# EAGLE library part M24M02-DR (library BrownSpaceEngineering)
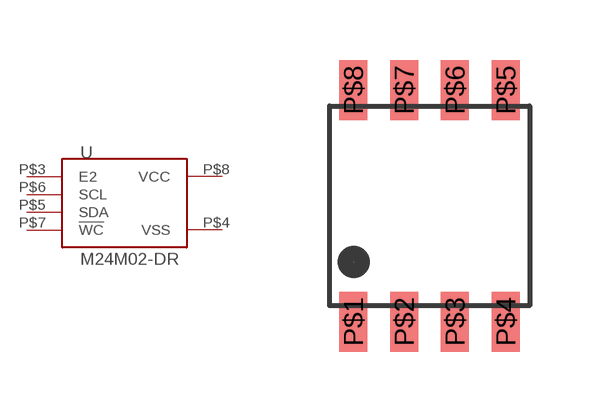
[diagram p15: symbol with the pads of SO-8; footprint SO-8]

Designator prefix U

## M24M02-DR  [SO-8]
P$3  E2
P$4  VSS
P$5  SDA
P$6  SCL
P$7  !WC!
P$8  VCC

## Footprint SO-8 (pad centres in mm)
smd 0.7 x 1.5: P$1 -1.905,-2.9; P$2 -0.635,-2.9; P$3 0.635,-2.9; P$4 1.905,-2.9; P$5 1.905,2.9; P$6 0.635,2.9; P$7 -0.635,2.9; P$8 -1.905,2.9